# Altium footprint library ISO.PcbLib: 48 footprints (part 1 of 3)
Each footprint in its own frame and in the unit in brackets; x right, y up, seen from the top. Pads: shape width x height; smd on the part's side, far side on the other; paste and mask are expansions set on the pad; w line width, h text height; cw(c..) or ccw(c..) is an arc to the next point about the centre after c.
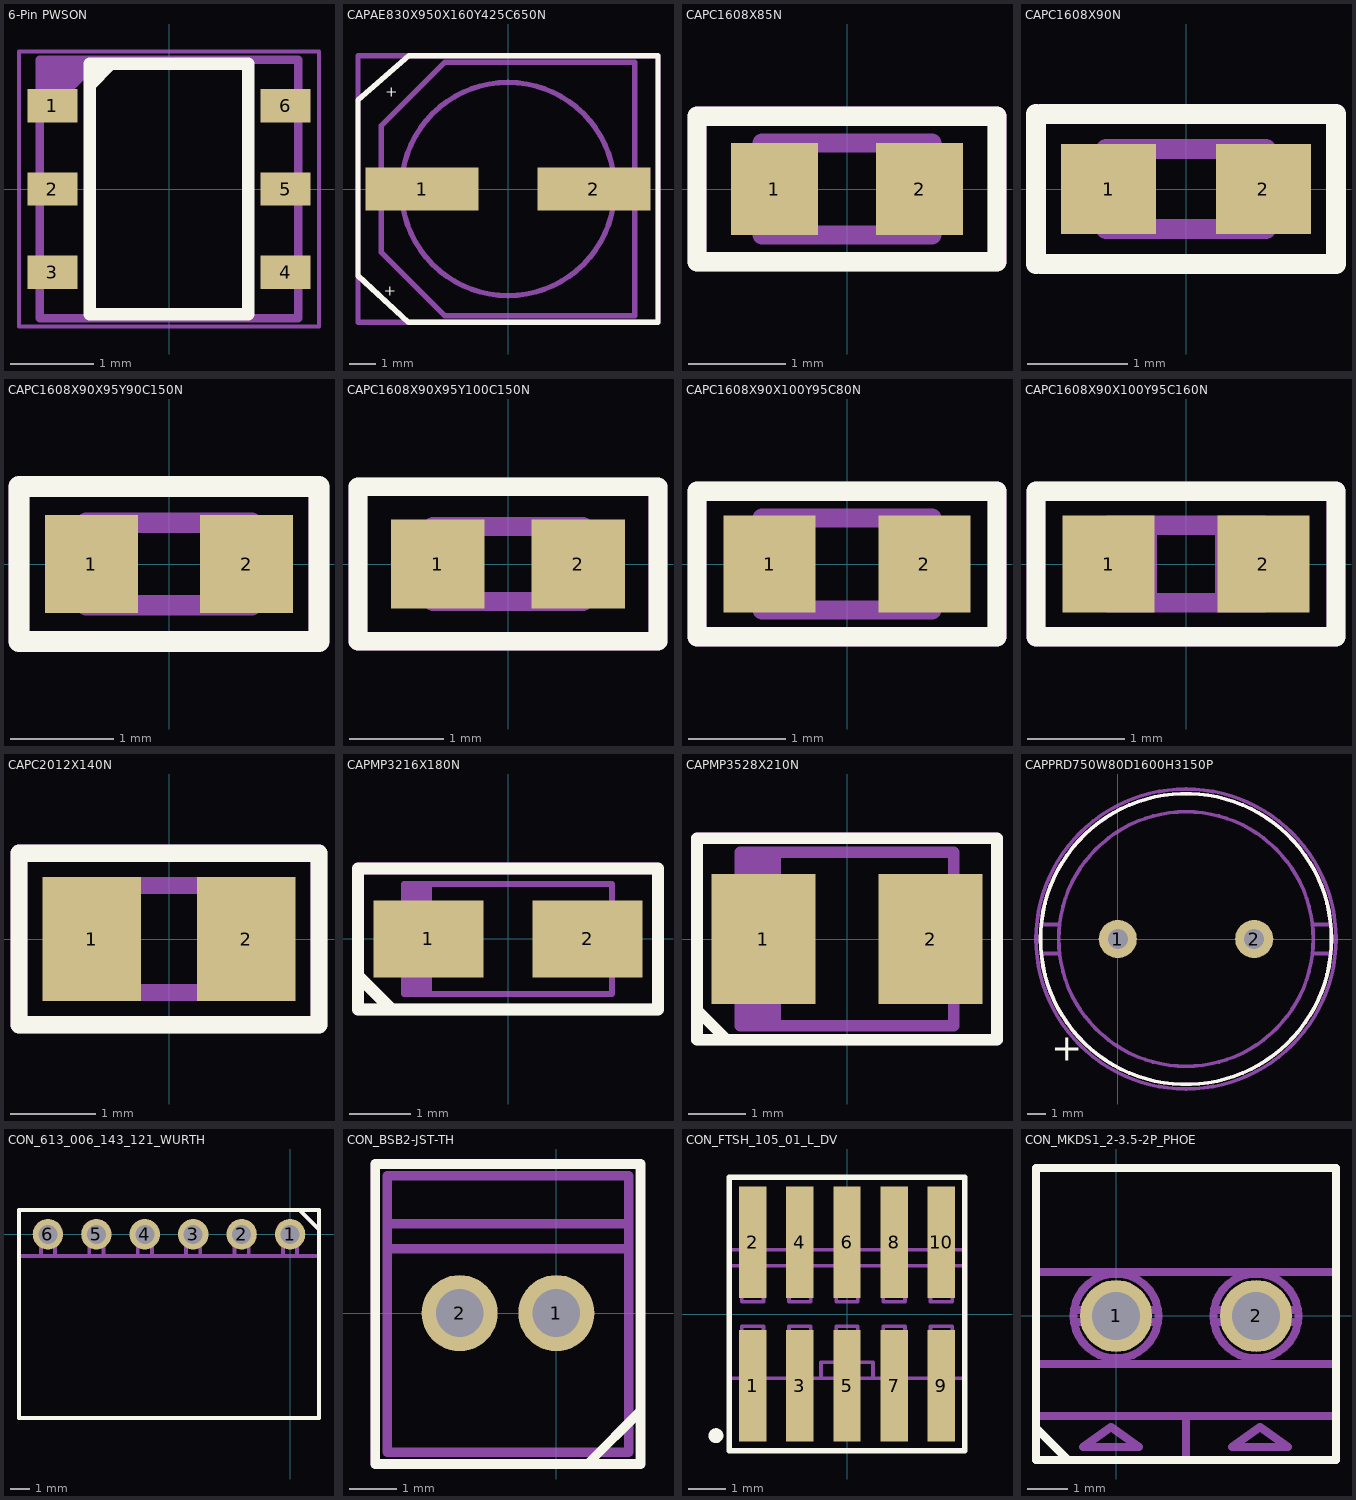
[diagram p0: the footprints below, top view; thin cyan lines are the x and y axes]

## 6-Pin PWSON [mm] "WSON 3.1x3.1x0.8"
height 0.8
pads (6):
  rect 0.6x0.4 smd: 1(-1.4,1) 2(-1.4,0) 3(-1.4,-1) 4(1.4,-1) 5(1.4,0) 6(1.4,1)
Top Overlay:
  lines w0.15: -0.95,1.25 -0.7,1.5 ; -0.95,-1.5 -0.95,1.5 0.95,1.5 0.95,-1.5 -0.95,-1.5
Mechanical 11:
  text ".designator" at 0.25,1.25 h0.6
Mechanical 13:
  lines w0.1: -1.55,0.85 -0.85,1.55 ; -1.55,0.95 -0.95,1.55 ; -1.55,1.05 -1.05,1.55 ; -1.55,1.15 -1.15,1.55 ; -1.55,1.25 -1.25,1.55 ; -1.55,1.35 -1.35,1.55 ; -1.55,1.45 -1.45,1.55 ; -1.55,-1.55 -1.55,1.55 1.55,1.55 1.55,-1.55 -1.55,-1.55
Mechanical 15:
  lines w0.05: -1.8,-1.65 -1.8,1.65 1.8,1.65 1.8,-1.65 -1.8,-1.65
3D body: height 0.05, standoff 0, extent -2.099,-1.799 2.099,1.799

## CAPAE830X950X160Y425C650N [mm] "Capacitor,Aluminum Electrolytic;8.30mm L X 8.30mm W X 9.50mm H"
height 9.5
pads (2):
  rect 4.25x1.6 smd: 1(-3.225,0) 2(3.225,0)
Top Overlay:
  lines w0.2: -5.625,-3.253 -3.729,-5 5.625,-5 5.625,5 -3.712,5 -5.625,3.339 -5.625,-3.253
  text "+" at -4.6,3.3 h0.7
  text "+" at -4.653,-4.148 h0.7
Mechanical 11:
  text ".Designator" at 0.5,-0.75 h0.6
Mechanical 13:
  circle w0.2: c0,0 r4
  lines w0.2: -4.75,-2.375 -2.375,-4.75 4.75,-4.75 4.75,4.75 -2.375,4.75 -4.75,2.375 -4.75,-2.375
  text "+" at -4.7,3.1 h1.52
  text "+" at -4.647,-4.155 h1.52
Mechanical 15:
  lines w0.2: -5.625,-5 5.625,-5 5.625,5 -5.625,5 -5.625,-5
3D body: height 9.5, standoff 0, extent -5.624,-4.999 5.624,4.999

## CAPC1608X85N [mm] "Chip Capacitor, Body 1.6x0.8mm, IPC Medium Density"
height 0.85
pads (2):
  rect 0.9x0.95 smd: 1(-0.75,0) 2(0.75,0)
Top Overlay:
  lines w0.2: -1.55,-0.75 -1.55,0.75 1.55,0.75 1.55,-0.75 -1.55,-0.75
Mechanical 11:
  text ".Designator" at -1.5,1 h0.6
Mechanical 13:
  lines w0.2: -0.875,-0.475 -0.875,0.475 0.875,0.475 0.875,-0.475 -0.875,-0.475
Mechanical 15:
  lines w0.2: -1.55,-0.75 -1.55,0.75 1.55,0.75 1.55,-0.75 -1.55,-0.75
3D body: height 0.85, standoff 0, extent -1.549,-0.749 1.549,0.749

## CAPC1608X90N [mm] "Chip Capacitor, 2-Leads, Body 1.6x0.8mm, IPC Medium Density"
height 0.9
pads (2):
  rect 0.95x0.9 smd: 1(-0.775,0) 2(0.775,0)
Top Overlay:
  lines w0.2: -1.5,-0.75 -1.5,0.75 ; -1.45,-0.75 1.5,-0.75 1.5,0.75 -1.45,0.75
Mechanical 11:
  text ".Designator" at -1.4,1 h0.6
Mechanical 13:
  lines w0.2: -0.4,-0.4 -0.4,0.4 ; 0.4,-0.4 0.4,0.4 ; -0.8,-0.4 -0.8,0.4 0.8,0.4 0.8,-0.4 -0.8,-0.4
Mechanical 15:
  lines w0.2: -1.5,-0.75 -1.5,0.75 1.5,0.75 1.5,-0.75 -1.5,-0.75
3D body: height 0.9, standoff 0, extent -1.5,-0.75 1.5,0.75

## CAPC1608X90X95Y90C150N [mm] "Chip Capacitor, 2-Leads, Body 1.6x0.8mm, IPC Medium Density"
height 0.9
pads (2):
  rect 0.9x0.95 smd: 1(-0.75,0) 2(0.75,0)
Top Overlay:
  lines w0.2: -1.45,-0.75 1.45,-0.75 1.45,0.75 -1.45,0.75 -1.45,-0.75
Mechanical 11:
  text ".Designator" at -1.4,1 h0.6
Mechanical 13:
  lines w0.2: -0.45,-0.4 -0.45,0.4 ; 0.45,-0.4 0.45,0.4 ; -0.8,-0.4 0.8,-0.4 0.8,0.4 -0.8,0.4 -0.8,-0.4
Mechanical 15:
  lines w0.2: -1.45,-0.75 1.45,-0.75 1.45,0.75 -1.45,0.75 -1.45,-0.75
3D body: height 0.9, standoff 0, extent -1.45,-0.749 1.45,0.749

## CAPC1608X90X95Y100C150N [mm] "Chip Capacitor, 2-Leads, Body 1.6x0.8mm, IPC Medium Density"
height 0.9
pads (2):
  rect 1x0.95 smd: 1(-0.75,0) 2(0.75,0)
Top Overlay:
  lines w0.2: -1.6,-0.825 -1.6,0.825 1.6,0.825 1.6,-0.825 -1.6,-0.825
Mechanical 11:
  text ".Designator" at 1,1.25 h0.6
Mechanical 13:
  lines w0.2: -0.4,-0.4 -0.4,0.4 ; 0.4,-0.4 0.4,0.4 ; -0.8,-0.4 -0.8,0.4 0.8,0.4 0.8,-0.4 -0.8,-0.4
Mechanical 15:
  lines w0.2: -1.6,-0.825 -1.6,0.825 1.6,0.825 1.6,-0.825 -1.6,-0.825
3D body: height 0.9, standoff 0, extent -1.6,-0.825 1.6,0.825

## CAPC1608X90X100Y95C80N [mm] "Chip Capacitor, Body 1.6x0.6mm, IPC Medium Density"
height 0.9
pads (2):
  rect 0.95x1 smd: 1(-0.8,0) 2(0.8,0)
Top Overlay:
  lines w0.2: -1.55,-0.75 -1.55,0.75 1.55,0.75 1.55,-0.75 -1.55,-0.75
Mechanical 11:
  text ".Designator" at -1.6,1 h0.6
Mechanical 13:
  lines w0.2: -0.875,-0.475 -0.875,0.475 0.875,0.475 0.875,-0.475 -0.875,-0.475
Mechanical 15:
  lines w0.2: -1.55,-0.75 -1.55,0.75 1.55,0.75 1.55,-0.75 -1.55,-0.75
3D body: height 0.9, standoff 0, extent -1.549,-0.749 1.549,0.749

## CAPC1608X90X100Y95C160N [mm] "Chip Capacitor, 2-Leads, Body 1.6x0.8mm, IPC Medium Density"
height 0.9
pads (2):
  rect 0.95x1 smd: 1(-0.8,0) 2(0.8,0)
Top Overlay:
  lines w0.2: -1.55,-0.75 -1.55,0.75 1.55,0.75 1.55,-0.75 -1.55,-0.75
Mechanical 11:
  text ".Designator" at -1.4,1 h0.6
Mechanical 13:
  lines w0.2: -0.4,-0.4 -0.4,0.4 ; 0.4,-0.4 0.4,0.4 ; -0.8,-0.4 -0.8,0.4 0.8,0.4 0.8,-0.4 -0.8,-0.4
Mechanical 15:
  lines w0.2: -1.55,-0.75 1.55,-0.75 1.55,0.75 -1.55,0.75 -1.55,-0.75
3D body: height 0.9, standoff 0, extent -1.549,-0.749 1.549,0.749
3D body: height 0.9, standoff 0, extent -1.549,-0.749 1.549,0.749

## CAPC2012X140N [mm] "Chip Capacitor, 2-Leads, Body 2.0x1.25mm, IPC Medium Density"
height 1.4
pads (2):
  rect 1.15x1.45 smd: 1(-0.9,0) 2(0.9,0)
Top Overlay:
  lines w0.2: -1.75,-1 -1.75,1 1.75,1 1.75,-1 -1.75,-1
Mechanical 11:
  text ".Designator" at -1.8,1 h0.6
Mechanical 13:
  lines w0.2: -0.7,-0.625 -0.7,0.625 ; 0.7,-0.625 0.7,0.625 ; -1,-0.625 -1,0.625 1,0.625 1,-0.625 -1,-0.625
Mechanical 15:
  lines w0.2: -1.75,-1 -1.75,1 1.75,1 1.75,-1 -1.75,-1
3D body: height 1.4, standoff 0, extent -1.749,-0.999 1.749,0.999

## CAPMP3216X180N [mm] "Capacitor, SM Tantalum; Body 3.2 x 1.6 mm x 1.8mm"
height 1.8
pads (2):
  rect 1.8x1.25 smd: 1(-1.3,0) 2(1.3,0)
Top Overlay:
  lines w0.2: -2.45,-0.6 -1.9,-1.15 ; -2.45,-1.15 -2.45,1.15 2.45,1.15 2.45,-1.15 -2.45,-1.15
Mechanical 11:
  text ".Designator" at -2.75,1.5 h0.6
Mechanical 13:
  rectangle: -1.7,-0.9 -1.243,0.9
  lines w0.1: -1.7,-0.9 -1.7,0.9 1.7,0.9 1.7,-0.9 -1.7,-0.9
  text "+" at -2.3,-1.2 h1
Mechanical 15:
  lines w0.2: -2.45,-1.15 -2.45,1.15 2.45,1.15 2.45,-1.15 -2.45,-1.15
3D body: height 1.8, standoff 0, extent -2.449,-1.149 2.449,1.149

## CAPMP3528X210N [mm] "Molded Capacitor, 2-Leads, Body 3.5x2.8mm, IPC Medium Density"
height 2.1
pads (2):
  rect 1.8x2.25 smd: 1(-1.45,0) 2(1.45,0)
Top Overlay:
  lines w0.2: -2.6,-1.231 -2.105,-1.726 -2.105,-1.75 ; -2.6,-1.75 -2.6,1.75 2.6,1.75 2.6,-1.75 -2.6,-1.75
Mechanical 11:
  text ".designator" at 0.75,-1 h0.6
Mechanical 13:
  rectangle: -1.85,-1.494 -1.142,1.5
  lines w0.2: -1.85,-1.5 1.85,-1.5 1.85,1.5 -1.85,1.5 -1.85,-1.5
  text "+" at -2.5,-1.8 h1.02
Mechanical 15:
  lines w0.2: -2.6,-1.75 -2.6,1.75 2.6,1.75 2.6,-1.75 -2.6,-1.75
3D body: height 2.1, standoff 0, extent -2.599,-1.749 2.599,1.749

## CAPPRD750W80D1600H3150P [mm] "Capacitor, 2-Leads, Body 16 mm round, IPC Medium Density"
height 31.5
pads (2):
  round 2.1 hole 1.1: 1(0,0) 2(7.5,0)
Top Overlay:
  circle w0.2: c3.75,0 r8
  text "+" at -3.65,-6.7 h1.5
Mechanical 11:
  text ".Designator" at 0.15,1.4 h0.6
Mechanical 13:
  circle w0.2: c3.75,0 r7
  circle w0.2: c3.75,0 r8
  lines w0.2: -4.15,-0.8 -3.25,-0.8 ; -4.15,0.8 -3.25,0.8 ; 10.75,-0.8 11.65,-0.8 ; 10.75,0.8 11.65,0.8
  text "+" at -0.85,-5 h1.5
Mechanical 15:
  circle w0.2: c3.75,0 r8.25
3D body: height 31.5, standoff 0, extent -4.499,-8.249 11.999,8.249

## CON_613_006_143_121_WURTH [mm] "2.54mm ANGLED SOCKET HEADER WR-PHD"
height 2.5
pads (6):
  round 1.6 hole 1 paste+0: 1(0,0) 2(-2.54,0) 3(-5.08,0) 4(-7.62,0) 5(-10.16,0) 6(-12.7,0)
Top Overlay:
  lines w0.2: 0.5,1.27 1.52,0.25 1.52,0 ; -14.22,-9.63 -14.22,1.27 1.52,1.27 1.52,-9.63 -14.22,-9.63
Mechanical 11:
  text ".designator" at -14.2,1.625 h0.6
Mechanical 13:
  lines w0.2: -13.07,-1.13 -13.07,0 -12.33,0 -12.33,-1.13 ; -10.53,-1.13 -10.53,0 -9.79,0 -9.79,-1.13 ; -7.99,-1.13 -7.99,0 -7.25,0 -7.25,-1.13 ; -5.45,-1.13 -5.45,0 -4.71,0 -4.71,-1.13 ; -2.91,-1.13 -2.91,0 -2.17,0 -2.17,-1.13 ; -0.37,-1.13 -0.37,0 0.37,0 0.37,-1.13 ; -14.22,-9.63 -14.22,-1.13 1.52,-1.13 1.52,-9.63 -14.22,-9.63
  text "1" at 0,-2.5 h1
Mechanical 15:
  lines w0.2: -14.22,-9.63 -14.22,1.27 1.52,1.27 1.52,-9.63 -14.22,-9.63
3D body: height 2.5, standoff 0, extent -14.219,-9.629 1.519,1.269

## CON_BSB2-JST-TH [mm] "2.0 mm PITCH WIRE-TO-BOARD HEADER"
height 11.7
pads (2):
  round 1.6 hole 1: 1(0,0) 2(-2.032,0)
Top Overlay:
  lines w0.2: 0.659,-3.165 1.774,-2.05 ; -3.806,-3.17 1.774,-3.17 1.774,3.13 -3.806,3.13 -3.806,-3.17
Mechanical 11:
  text ".designator" at -5.75,2.5 h0.6
Mechanical 13:
  lines w0.2: -3.556,1.35 1.524,1.35 ; -3.556,1.88 1.524,1.88 ; -3.556,-2.92 1.524,-2.92 1.524,2.88 -3.556,2.88 -3.556,-2.92 ; -2.536,-0.25 -2.536,0.25 -2.036,0.25 -2.036,-0.25 -2.536,-0.25 ; 0.004,-0.25 0.504,-0.25 0.504,0.25 0.004,0.25 0.004,-0.25
  text "1" at 0.854,-2.6 h1
Mechanical 15:
  lines w0.2: -3.806,-3.17 1.754,-3.17 1.754,3.13 -3.806,3.13 -3.806,-3.17
3D body: height 11.7, standoff 0, extent -3.806,-3.17 1.754,3.13

## CON_FTSH_105_01_L_DV [mm] "DIN STANDARD HEADER TYPE FTSH 2X5P"
height 6.12
pads (10):
  rect 0.74x3 smd: 1(-2.54,-1.93) 2(-2.54,1.93) 3(-1.27,-1.93) 4(-1.27,1.93) 5(0,-1.93) 6(0,1.93) 7(1.27,-1.93) 8(1.27,1.93) 9(2.54,-1.93) 10(2.54,1.93)
Top Overlay:
  circle w0.2: c-3.531,-3.277 r0.1
  lines w0.15: -2.495,-3.68 -2.4,-3.68 ; -3.175,-3.68 -3.175,3.68 3.175,3.68 3.175,-3.68 -3.175,-3.68
Mechanical 11:
  text ".designator" at -2.95,3.425 h1
Mechanical 13:
  lines w0.1: -3.175,1.3 3.175,1.3 ; -3.162,1.3 -3.162,1.727 ; -0.7,-1.727 -0.7,-1.3 0.7,-1.3 0.7,-1.727 ; -3.175,-1.727 -3.175,1.727 3.175,1.727 3.175,-1.727 -3.175,-1.727 ; -2.832,-0.94 -2.832,-0.33 -2.248,-0.33 -2.248,-0.94 -2.832,-0.94 ; -2.832,0.33 -2.832,0.94 -2.248,0.94 -2.248,0.33 -2.832,0.33 ; -2.781,-2.921 -2.781,-1.727 -2.299,-1.727 -2.299,-2.921 -2.781,-2.921 ; -2.781,1.727 -2.299,1.727 -2.299,2.921 -2.781,2.921 -2.781,1.727 ; -1.562,-0.94 -1.562,-0.33 -0.978,-0.33 -0.978,-0.94 -1.562,-0.94 ; -1.562,0.33 -1.562,0.94 -0.978,0.94 -0.978,0.33 -1.562,0.33 ; -1.511,-2.921 -1.511,-1.727 -1.029,-1.727 -1.029,-2.921 -1.511,-2.921 ; -1.511,1.727 -1.029,1.727 -1.029,2.921 -1.511,2.921 -1.511,1.727 ; -0.292,-0.94 -0.292,-0.33 0.292,-0.33 0.292,-0.94 -0.292,-0.94 ; -0.292,0.33 -0.292,0.94 0.292,0.94 0.292,0.33 -0.292,0.33 ; -0.241,-2.921 -0.241,-1.727 0.241,-1.727 0.241,-2.921 -0.241,-2.921 ; -0.241,1.727 0.241,1.727 0.241,2.921 -0.241,2.921 -0.241,1.727 ; 0.978,-0.94 0.978,-0.33 1.562,-0.33 1.562,-0.94 0.978,-0.94 ; 0.978,0.33 0.978,0.94 1.562,0.94 1.562,0.33 0.978,0.33 ; 1.029,-2.921 1.029,-1.727 1.511,-1.727 1.511,-2.921 1.029,-2.921 ; 1.029,1.727 1.511,1.727 1.511,2.921 1.029,2.921 1.029,1.727 ; 2.248,-0.94 2.248,-0.33 2.832,-0.33 2.832,-0.94 2.248,-0.94 ; 2.248,0.33 2.248,0.94 2.832,0.94 2.832,0.33 2.248,0.33 ; 2.299,-2.921 2.299,-1.727 2.781,-1.727 2.781,-2.921 2.299,-2.921 ; 2.299,1.727 2.781,1.727 2.781,2.921 2.299,2.921 2.299,1.727
  text "2" at -3.5,2.075 h0.6
  text "1" at -3.45,-2.775 h0.6
Mechanical 15:
  lines w0.05: -3.175,-3.68 -3.175,3.68 3.175,3.68 3.175,-3.68 -3.175,-3.68
3D body: height 0.05, standoff 0, extent -3.174,-3.679 3.174,3.679
3D body "FTSH-105-01-L-DV.stp": height 5.97, standoff 0, extent -3.175,-2.921 3.175,2.921

## CON_MKDS1_2-3.5-2P_PHOE [mm] "TERMINAL BLOCK MKDS1/2-3,5 HT BK"
height 8.5
pads (2):
  round 1.8 hole 1.2: 1(0,0) 2(3.5,0)
Top Overlay:
  lines w0.2: -2,-2.8 -1.2,-3.6 ; -2,-3.6 -2,3.7 5.5,3.7 5.5,-3.6 -2,-3.6
Mechanical 11:
  text ".designator" at 3.25,3.25 h0.6
Mechanical 13:
  circle w0.2: c0,0 r1.059
  circle w0.2: c3.5,0 r1.059
  lines w0.2: -2,-2.5 5.5,-2.5 ; -2,-1.2 5.5,-1.2 ; -2,1.1 5.5,1.1 ; -1.05,0.15 0.959,0.15 ; -1,-0.15 1.009,-0.15 ; 1.75,-3.6 1.75,-2.5 ; 2.45,0.15 4.459,0.15 ; 2.5,-0.15 4.509,-0.15 ; -2,-3.6 5.5,-3.6 5.5,3.7 -2,3.7 -2,-3.6 ; -0.825,-3.275 0.575,-3.275 -0.125,-2.775 -0.825,-3.275 ; 2.9,-3.275 4.3,-3.275 3.6,-2.775 2.9,-3.275
  text "1" at -1.75,-0.8 h1.52
Mechanical 15:
  lines w0.2: -2,-3.6 5.5,-3.6 5.5,3.7 -2,3.7 -2,-3.6
3D body: height 8.5, standoff 0, extent -2,-3.6 5.5,3.7